# Altium footprint library F-Protective Device.PCBLIB: 1 footprints
Each footprint in its own frame and in the unit in brackets; x right, y up, seen from the top. Pads: shape width x height; smd on the part's side, far side on the other; paste and mask are expansions set on the pad; w line width, h text height; cw(c..) or ccw(c..) is an arc to the next point about the centre after c.
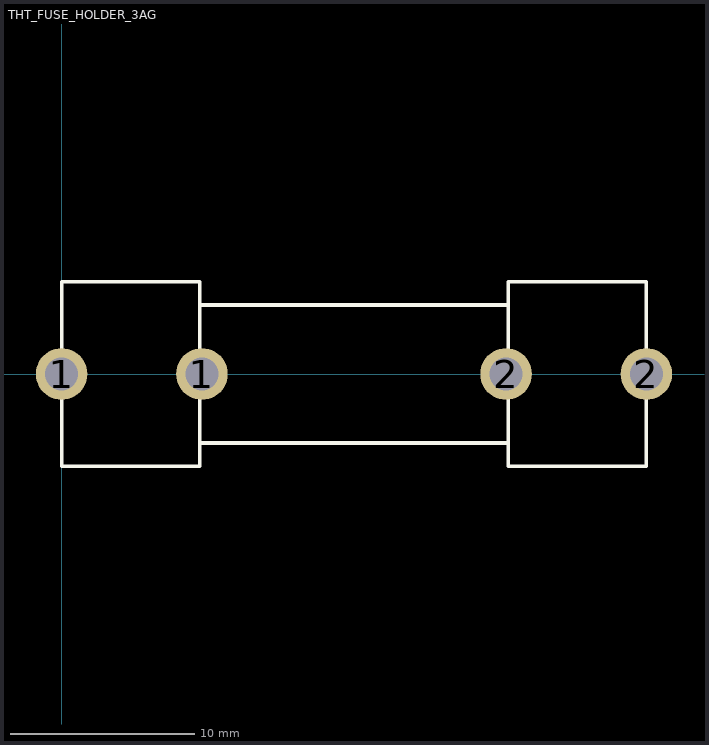
[diagram p0: the footprint, top view; thin cyan lines are the x and y axes]

## THT_FUSE_HOLDER_3AG [mm]
pads (4):
  round 2.8 hole 1.8: 1(0,0) 1(7.62,0) 2(24.13,0) 2(31.75,0)
Top Overlay:
  lines w0.2: 7.5,-3.75 24.25,-3.75 ; 7.5,3.75 24.25,3.75 ; 0,-5 7.5,-5 7.5,5 0,5 0,-5 ; 24.25,-5 31.75,-5 31.75,5 24.25,5 24.25,-5